# EAGLE library part ADA_TB6612 (library Richard_Boards)
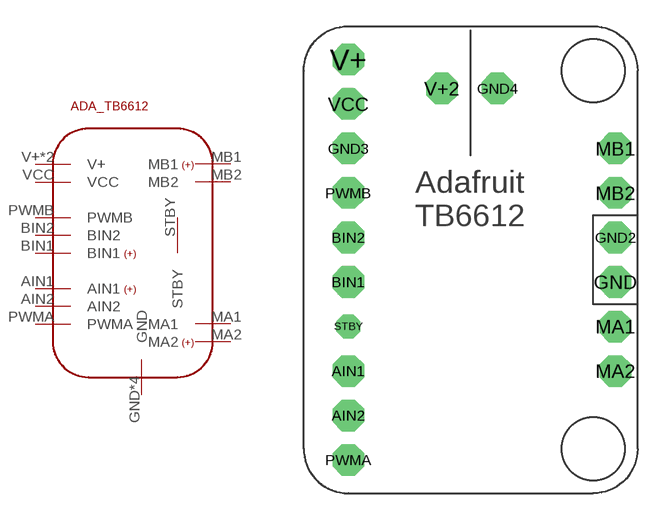
[diagram p3: symbol with the pads of ADA_TB6612; footprint ADA_TB6612]

Designator prefix -

## ADA_TB6612  [ADA_TB6612]
AIN1  AIN1  pas
AIN2  AIN2  pas
BIN1  BIN1  pas
BIN2  BIN2  pas
GND  GND  pas
GND2  GND  pas
GND3  GND  pas
GND4  GND  pas
MA1  MA1  pas
MA2  MA2  pas
MB1  MB1  pas
MB2  MB2  pas
PWMA  PWMA  pas
PWMB  PWMB  pas
STBY  STBY  pas
V+  V+  pas
V+2  V+  pas
VCC  VCC  pas

## Footprint ADA_TB6612 (pad centres in mm)
drill 1.2 octagon: AIN1 -6.985,-6.35; AIN2 -6.985,-8.89; BIN1 -6.985,-1.27; BIN2 -6.985,1.27; GND 8.255,-1.27; GND2 8.255,1.27; GND3 -6.985,6.35; GND4 1.524,9.779; MA1 8.255,-3.81; MA2 8.255,-6.35; MB1 8.255,6.35; MB2 8.255,3.81; PWMA -6.985,-11.43; PWMB -6.985,3.81; V+ -6.985,11.43; V+2 -1.651,9.779; VCC -6.985,8.89
drill 0.85 octagon: STBY -6.985,-3.81